# Altium footprint library PcbLib.PcbLib: 34 footprints (part 2 of 3)
Each footprint in its own frame and in the unit in brackets; x right, y up, seen from the top. Pads: shape width x height; smd on the part's side, far side on the other; paste and mask are expansions set on the pad; w line width, h text height; cw(c..) or ccw(c..) is an arc to the next point about the centre after c.
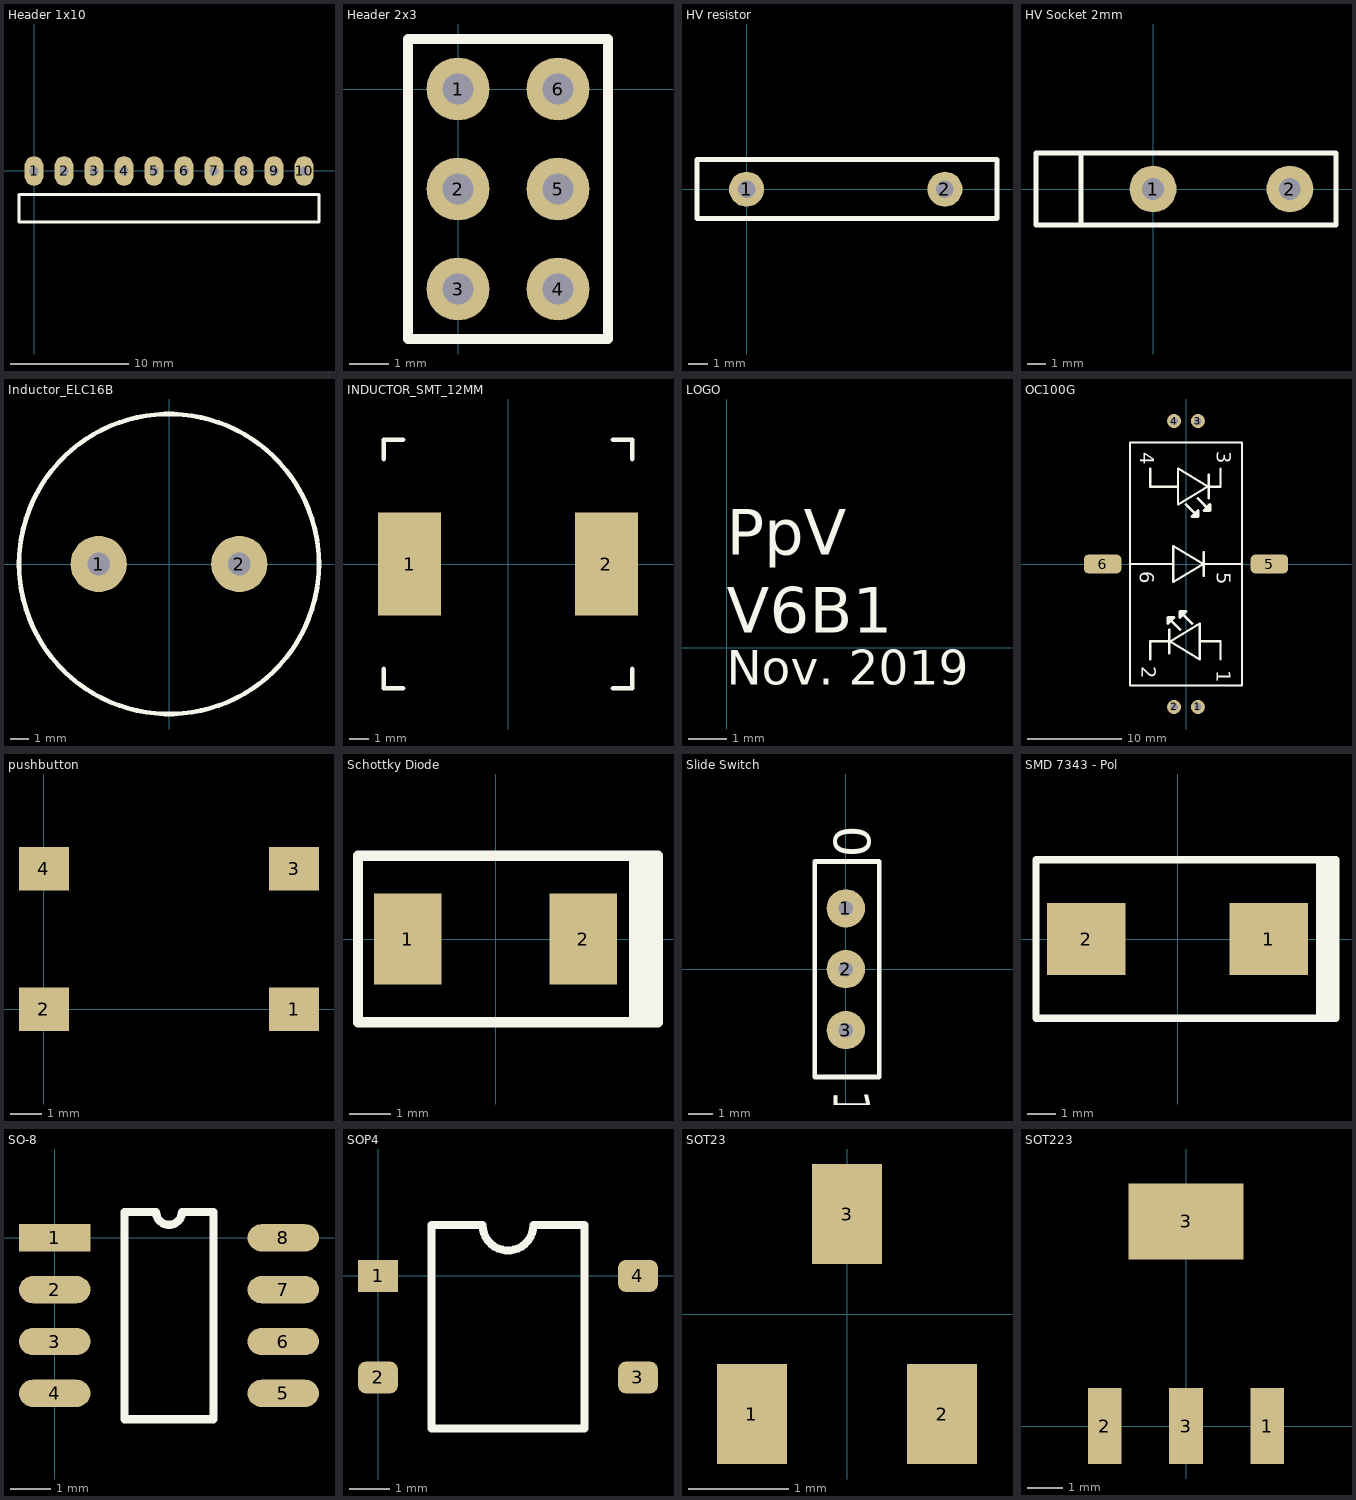
[diagram p1: the footprints below, top view; thin cyan lines are the x and y axes]

## Header 1x10 [mm]
pads (10):
  oval 1.6x2.5 hole 0.8: 1(0,0) 2(2.54,0) 3(5.08,0) 4(7.62,0) 5(10.16,0) 6(12.7,0) 7(15.24,0) 8(17.78,0) 9(20.32,0) 10(22.86,0)
Top Overlay:
  lines w0.254: -1.27,-4.3 24.13,-4.3 24.13,-2 -1.27,-2 -1.27,-4.3

## Header 2x3 [mm]
pads (6):
  round 1.6 hole 0.8: 1(0,0) 2(0,-2.54) 3(0,-5.08) 4(2.54,-5.08) 5(2.54,-2.54) 6(2.54,0)
Top Overlay:
  lines w0.25: -1.27,-6.35 3.81,-6.35 3.81,1.27 -1.27,1.27 -1.27,-6.35

## HV resistor [mm]
pads (2):
  round 1.8 hole 0.9 mask+0.102: 1(-0.002,0)
  round 1.8 hole 0.9: 2(10.16,0)
Top Overlay:
  lines w0.254: -2.54,-1.5 1.627,-1.5 8.533,-1.5 11.294,-1.5 12.827,-1.5 12.827,1.524 -2.54,1.524 -2.54,-1.5
3D body: height 4, standoff 0, extent 9.664,-0.499 10.66,0.499
3D body: height 4, standoff 0, extent -0.498,-0.499 0.498,0.499
3D body: height 8.64, standoff 4, extent -2.54,-1.27 12.827,1.27

## HV Socket 2mm [mm]
pads (2):
  round 2.6 hole 1.2: 1(0,0) 2(7.6,0)
Top Overlay:
  lines w0.254: -4,-2 -4,2 ; -4,-2 8.5,-2 10.16,-2 10.16,2 8.5,2 -4,2 ; -4,-2 -6.5,-2 -6.5,2 -4,2
3D body: height 5.09, standoff 2.9, extent -6.396,-1.098 -3.896,1.098
3D body: height 4, standoff 0, extent -4,-2 8.5,2
3D body: height 6, standoff 2, extent -4,-1.9 8.5,2.1

## Inductor_ELC16B [mm]
pads (2):
  round 3 hole 1.2: 1(-3.75,0) 2(3.75,0)
Top Overlay:
  circle w0.25: c0,0 r8

## INDUCTOR_SMT_12MM [mm]
height 6
pads (2):
  rect 3.3x5.4 smd: 1(-5.15,0) 2(5.15,0)
Top Overlay:
  lines w0.25: -6.5,-5.5 -6.5,-6.5 -5.5,-6.5 ; -6.5,5.5 -6.5,6.5 -5.5,6.5 ; 5.5,-6.5 6.5,-6.5 6.5,-5.5 ; 5.5,6.5 6.5,6.5 6.5,5.5
3D body: height 10, standoff 0.1, extent -6,-6 6,6

## LOGO [mm] "Peta-Pico-voltron LOGO"
Top Overlay:
  text "Nov. 2019" at 0,-1.27 h1.52
  text "PpV / V6B1" at 0,0 h2.03

## OC100G [mm]
pads (6):
  round 1.5 hole 0.8: 1(1.27,-15.24) 2(-1.27,-15.24) 3(1.27,15.24) 4(-1.27,15.24)
  rrect50% 4x2 smd: 5(8.89,0) 6(-8.89,0)
Top Overlay:
  lines w0.254: -5.969,0 -1.397,0 ; -3.81,-10.16 -3.81,-8.255 -3.048,-8.255 -1.693,-8.255 ; -3.81,10.16 -3.81,8.255 -3.048,8.255 -0.889,8.255 ; -1.778,-9.525 -1.778,-6.985 ; 1.524,-8.255 3.683,-8.255 3.683,-10.16 ; 1.905,-1.27 1.905,1.27 ; 2.413,6.985 2.413,9.525 ; 3.683,10.16 3.683,8.255 2.328,8.255 ; 5.969,0 1.82,0 ; -1.693,-8.255 1.482,-6.35 1.482,-10.16 -1.693,-8.255 ; 1.82,0 -1.355,1.905 -1.355,-1.905 1.82,0 ; 2.328,8.255 -0.847,6.35 -0.847,10.16 2.328,8.255 ; -5.969,-12.954 -5.969,12.954 5.969,12.954 5.969,-12.954 -5.969,-12.954
  lines w0.305: -0.635,-6.985 -1.905,-5.715 ; 0,6.35 1.27,5.08 ; 0.635,-6.35 -0.635,-5.08 ; 1.27,6.985 2.54,5.715 ; -1.905,-5.715 -1.27,-5.715 -1.905,-6.35 -1.905,-5.715 ; -0.635,-5.08 0,-5.08 -0.635,-5.715 -0.635,-5.08 ; 1.27,5.08 0.635,5.08 1.27,5.715 1.27,5.08 ; 2.54,5.715 1.905,5.715 2.54,6.35 2.54,5.715
  text "1" at 3.3,-11.3 h1.52
  text "2" at -4.699,-10.922 h1.52
  text "5" at 3.302,-0.889 h1.52
  text "6" at -4.953,-0.762 h1.52
  text "3" at 3.3,12 h1.52
  text "4" at -4.9,11.9 h1.52
3D body: height 4.06, standoff 0, extent -2.54,-16.51 2.54,-12.7
3D body: height 4.06, standoff 0, extent -2.54,12.7 2.54,16.51
3D body: height 4.06, standoff 0, extent -9.525,-1.27 -5.715,1.27
3D body: height 4.06, standoff 0, extent 5.715,-1.27 9.525,1.27
3D body: height 8.13, standoff 0, extent -5.715,-12.7 5.715,12.7

## pushbutton [mm]
pads (4):
  rect 1.6x1.4 smd: 1(8,0) 2(0,0) 3(8,4.5) 4(0,4.5)
3D body: height 2.6, standoff 0, extent 0.762,-0.698 7.239,5.271
3D body: height 0.25, standoff 0, extent -0.254,4.064 0.762,4.826
3D body: height 0.25, standoff 0, extent -0.254,-0.381 0.762,0.381
3D body: height 0.25, standoff 0, extent 7.239,4.119 8.255,4.881
3D body: height 0.25, standoff 0, extent 7.239,-0.381 8.255,0.381
3D body: height 0.25, standoff 0, extent 2.54,-3.175 2.54,-3.175
3D body: height 7.3, standoff 0, extent 2.794,1.397 5.08,3.683

## Schottky Diode [mm]
pads (2):
  rect 1.62x2.18 smd: 1(-2.11,0) 2(2.11,0)
Top Overlay:
  rectangle: 3.2,-2 3.9,2
  lines w0.25: -3.3,-2 3.9,-2 3.9,2 -3.3,2 -3.3,-2

## Slide Switch [mm]
pads (3):
  round 1.6 hole 0.6: 1(0,2.54) 2(0,0) 3(0,-2.54)
Top Overlay:
  lines w0.2: -1.3,-4.5 -1.3,4.5 1.4,4.5 1.4,-4.5 -1.3,-4.5
  text "1" at -0.5,-5 h1.52
  text "0" at -0.5,6 h1.52
3D body: height 0.25, standoff 0, extent -1,-4 4.5,4

## SMD 7343 - Pol [mm]
pads (2):
  rect 2.77x2.55 smd: 1(3.22,0) 2(-3.22,0)
Top Overlay:
  rectangle: 4.9,-2.8 5.6,2.8
  lines w0.25: -5,-2.8 5.6,-2.8 5.6,2.8 -5,2.8 -5,-2.8

## SO-8 [mm]
pads (8):
  rect 1.75x0.67 smd: 1(0,0)
  oval 1.75x0.67 smd: 2(0,-1.27) 3(0,-2.54) 4(0,-3.81) 5(5.6,-3.81) 6(5.6,-2.54) 7(5.6,-1.27) 8(5.6,0)
Top Overlay:
  lines w0.2: 1.71,-4.445 1.71,0.635 2.482,0.635 ccw(c2.8,0.635) 3.117,0.635 3.89,0.635 3.89,-4.445 1.71,-4.445

## SOP4 [mm]
pads (4):
  rect 1x0.8 smd: 1(0,0)
  rrect50% 1x0.8 smd: 2(0,-2.54) 3(6.5,-2.54) 4(6.5,0)
Top Overlay:
  lines w0.2: 1.335,-3.81 1.335,1.27 2.615,1.27 ccw(c3.25,1.27) 3.885,1.27 5.165,1.27 5.165,-3.81 1.335,-3.81

## SOT23 [mm]
pads (3):
  rect 0.7x1 smd: 1(-0.95,-1) 2(0.95,-1) 3(0,1)

## SOT223 [mm]
pads (4):
  rect 0.95x2.15 smd: 1(2.3,0) 2(-2.3,0) 3(0,0)
  rect 3.25x2.15 smd: 3(0,5.8)